# Altium integrated library Capacitor - Aluminium TH.IntLib: 4591 symbols (part 22 of 68)
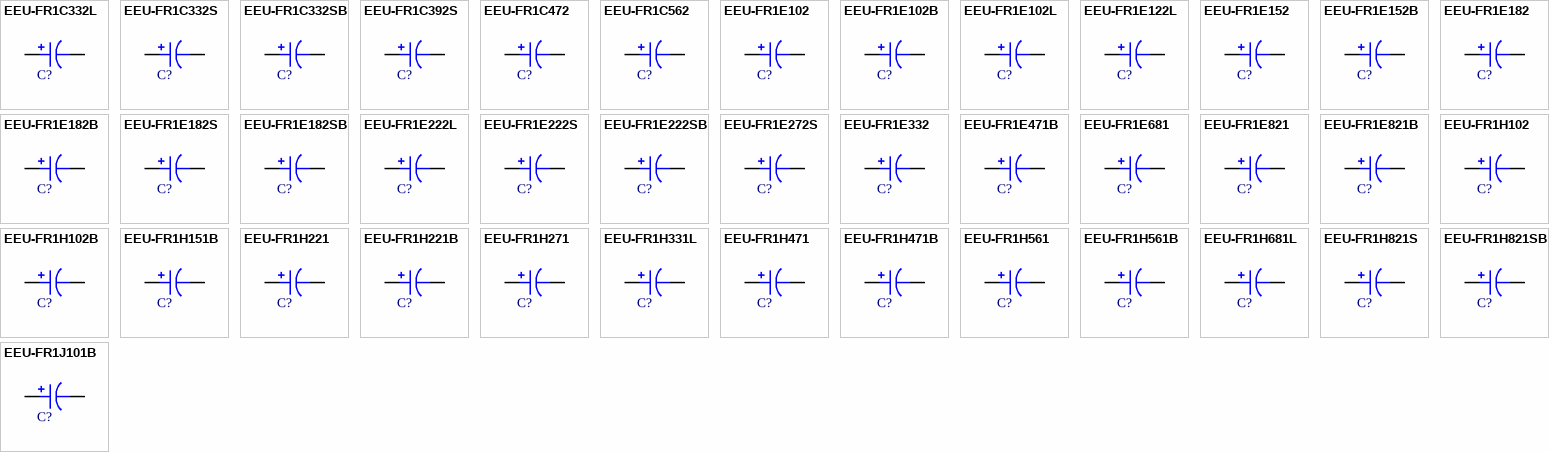
[diagram p135: symbols EEU-FR1C332L to EEU-FR1J101B]

## EEU-FR1H561B
designator C?, comment 560uF  (value not drawn)
CAP ALUM 560UF 20% 50V RADIAL; Part Number: EEU-FR1H561B; Manufacturer: Panasonic Electronic Components; TemperatureRange: -40C ~ 105C; Type: Polar; Ripple Current: 1.995A @ 120Hz; Impedance: 18 mOhm; Value: 560uF; PartId: 24080; Supplier 1: Digi-Key; Supplier Part Number 1: P15380CT-ND; ComponentLink1Description: Datasheet; ComponentLink1URL: http://industrial.panasonic.com/cdbs/www-data/pdf/RDF0000/ABA0000C836.pdf; ComponentLink2Description: Digi-Key Listing; ComponentLink2URL: https://www.digikey.com/product-detail/en/panasonic-electronic-components/EEU-FR1H561B/P15380CT-ND/3072260; Tolerance: 20%; Voltage: 50V; Price: 1.21; Device Package: Radial, Can, 12.5mm
footprint CAP AL TH D12.5 L5 H27
pins: 1, 2

## EEU-FR1H681L
designator C?, comment 680uF  (value not drawn)
CAP ALUM 680UF 20% 50V RADIAL; Part Number: EEU-FR1H681L; Manufacturer: Panasonic Electronic Components; TemperatureRange: -40C ~ 105C; Type: Polar; Ripple Current: 2.37A @ 120Hz; Impedance: 16 mOhm; Value: 680uF; PartId: 24336; Supplier 1: Digi-Key; Supplier Part Number 1: P14463-ND; ComponentLink1Description: Datasheet; ComponentLink1URL: http://industrial.panasonic.com/cdbs/www-data/pdf/RDF0000/ABA0000C836.pdf; ComponentLink2Description: Digi-Key Listing; ComponentLink2URL: https://www.digikey.com/product-detail/en/panasonic-electronic-components/EEU-FR1H681L/P14463-ND/2433597; Tolerance: 20%; Voltage: 50V; Price: 1.31; Device Package: Radial, Can, 12.5mm
footprint CAP AL TH D12.5 L5 H35.5
pins: 1, 2

## EEU-FR1H821S
designator C?, comment 820uF  (value not drawn)
CAP ALUM 820UF 20% 50V RADIAL; Part Number: EEU-FR1H821S; Manufacturer: Panasonic Electronic Components; TemperatureRange: -40C ~ 105C; Type: Polar; Ripple Current: 2.1525A @ 120Hz; Impedance: 19 mOhm; Value: 820uF; PartId: 26469; Supplier 1: Digi-Key; Supplier Part Number 1: P14464-ND; ComponentLink1Description: Datasheet; ComponentLink1URL: http://industrial.panasonic.com/cdbs/www-data/pdf/RDF0000/ABA0000C836.pdf; ComponentLink2Description: Digi-Key Listing; ComponentLink2URL: https://www.digikey.com/product-detail/en/panasonic-electronic-components/EEU-FR1H821S/P14464-ND/2433598; Tolerance: 20%; Voltage: 50V; Price: 1.6; Device Package: Radial, Can, 16mm
footprint CAP AL TH D16 L7.5 H22
pins: 1, 2

## EEU-FR1H821SB
designator C?, comment 820uF  (value not drawn)
CAP ALUM 820UF 20% 50V RADIAL; Part Number: EEU-FR1H821SB; Manufacturer: Panasonic Electronic Components; TemperatureRange: -40C ~ 105C; Type: Polar; Ripple Current: 2.1525A @ 120Hz; Impedance: 19 mOhm; Value: 820uF; PartId: 26392; Supplier 1: Digi-Key; Supplier Part Number 1: P15381TB-ND; ComponentLink1Description: Datasheet; ComponentLink1URL: http://industrial.panasonic.com/cdbs/www-data/pdf/RDF0000/ABA0000C836.pdf; ComponentLink2Description: Digi-Key Listing; ComponentLink2URL: https://www.digikey.com/product-detail/en/panasonic-electronic-components/EEU-FR1H821SB/P15381TB-ND/2504150; Tolerance: 20%; Voltage: 50V; Price: 0.841; Device Package: Radial, Can, 16mm
footprint CAP AL TH D16 L7.5 H22
pins: 1, 2

## EEU-FR1J101B
designator C?, comment 100uF  (value not drawn)
CAP ALUM 100UF 20% 63V RADIAL; Part Number: EEU-FR1J101B; Manufacturer: Panasonic Electronic Components; TemperatureRange: -40C ~ 105C; Type: Polar; Ripple Current: 532.7mA @ 120Hz; Impedance: 63 mOhm; Value: 100uF; PartId: 24651; Supplier 1: Digi-Key; Supplier Part Number 1: P15287TB-ND; ComponentLink1Description: Datasheet; ComponentLink1URL: http://industrial.panasonic.com/cdbs/www-data/pdf/RDF0000/ABA0000C836.pdf; ComponentLink2Description: Digi-Key Listing; ComponentLink2URL: https://www.digikey.com/product-detail/en/panasonic-electronic-components/EEU-FR1J101B/P15287TB-ND/3072304; Tolerance: 20%; Voltage: 63V; Price: 0.2544; Device Package: Radial, Can, 10mm
footprint CAP AL TH D10 L5 H14.5
pins: 1, 2

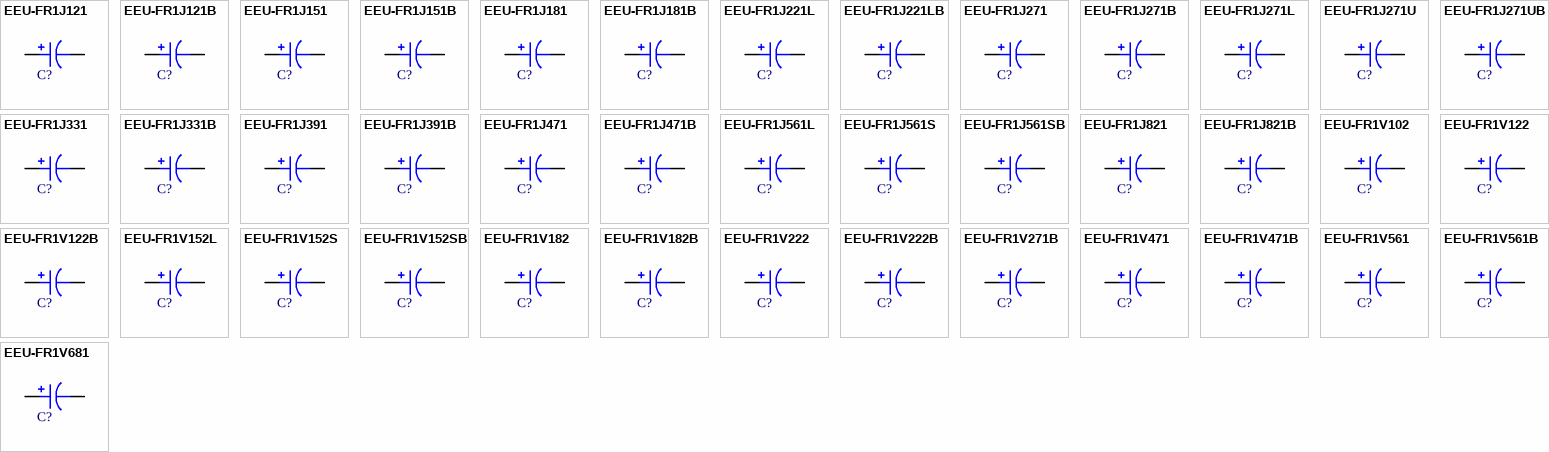
[diagram p35: symbols EEU-FR1J121 to EEU-FR1V681]

## EEU-FR1J121
designator C?, comment 120uF  (value not drawn)
CAP ALUM 120UF 20% 63V RADIAL; Part Number: EEU-FR1J121; Manufacturer: Panasonic Electronic Components; TemperatureRange: -40C ~ 105C; Type: Polar; Ripple Current: 751.1mA @ 120Hz; Impedance: 45 mOhm; Value: 120uF; PartId: 25334; Supplier 1: Digi-Key; Supplier Part Number 1: P15404-ND; ComponentLink1Description: Datasheet; ComponentLink1URL: http://industrial.panasonic.com/cdbs/www-data/pdf/RDF0000/ABA0000C836.pdf; ComponentLink2Description: Digi-Key Listing; ComponentLink2URL: https://www.digikey.com/product-detail/en/panasonic-electronic-components/EEU-FR1J121/P15404-ND/3072284; Tolerance: 20%; Voltage: 63V; Price: 0.67; Device Package: Radial, Can, 10mm
footprint CAP AL TH D10 L5 H17.5
pins: 1, 2

## EEU-FR1J121B
designator C?, comment 120uF  (value not drawn)
CAP ALUM 120UF 20% 63V RADIAL; Part Number: EEU-FR1J121B; Manufacturer: Panasonic Electronic Components; TemperatureRange: -40C ~ 105C; Type: Polar; Ripple Current: 751.1mA @ 120Hz; Impedance: 45 mOhm; Value: 120uF; PartId: 25094; Supplier 1: Digi-Key; Supplier Part Number 1: P15289TB-ND; ComponentLink1Description: Datasheet; ComponentLink1URL: http://industrial.panasonic.com/cdbs/www-data/pdf/RDF0000/ABA0000C836.pdf; ComponentLink2Description: Digi-Key Listing; ComponentLink2URL: https://www.digikey.com/product-detail/en/panasonic-electronic-components/EEU-FR1J121B/P15289TB-ND/3072306; Tolerance: 20%; Voltage: 63V; Price: 0.2675; Device Package: Radial, Can, 10mm
footprint CAP AL TH D10 L5 H17.5
pins: 1, 2

## EEU-FR1J151
designator C?, comment 150uF  (value not drawn)
CAP ALUM 150UF 20% 63V RADIAL; Part Number: EEU-FR1J151; Manufacturer: Panasonic Electronic Components; TemperatureRange: -40C ~ 105C; Type: Polar; Ripple Current: 751.1mA @ 120Hz; Impedance: 45 mOhm; Value: 150uF; PartId: 25330; Supplier 1: Digi-Key; Supplier Part Number 1: P15406-ND; ComponentLink1Description: Datasheet; ComponentLink1URL: http://industrial.panasonic.com/cdbs/www-data/pdf/RDF0000/ABA0000C836.pdf; ComponentLink2Description: Digi-Key Listing; ComponentLink2URL: https://www.digikey.com/product-detail/en/panasonic-electronic-components/EEU-FR1J151/P15406-ND/3072286; Tolerance: 20%; Voltage: 63V; Price: 0.67; Device Package: Radial, Can, 10mm
footprint CAP AL TH D10 L5 H17.5
pins: 1, 2

## EEU-FR1J151B
designator C?, comment 150uF  (value not drawn)
CAP ALUM 150UF 20% 63V RADIAL; Part Number: EEU-FR1J151B; Manufacturer: Panasonic Electronic Components; TemperatureRange: -40C ~ 105C; Type: Polar; Ripple Current: 751.1mA @ 120Hz; Impedance: 45 mOhm; Value: 150uF; PartId: 25093; Supplier 1: Digi-Key; Supplier Part Number 1: P15291TB-ND; ComponentLink1Description: Datasheet; ComponentLink1URL: http://industrial.panasonic.com/cdbs/www-data/pdf/RDF0000/ABA0000C836.pdf; ComponentLink2Description: Digi-Key Listing; ComponentLink2URL: https://www.digikey.com/product-detail/en/panasonic-electronic-components/EEU-FR1J151B/P15291TB-ND/3072308; Tolerance: 20%; Voltage: 63V; Price: 0.2675; Device Package: Radial, Can, 10mm
footprint CAP AL TH D10 L5 H17.5
pins: 1, 2

## EEU-FR1J181
designator C?, comment 180uF  (value not drawn)
CAP ALUM 180UF 20% 63V RADIAL; Part Number: EEU-FR1J181; Manufacturer: Panasonic Electronic Components; TemperatureRange: -40C ~ 105C; Type: Polar; Ripple Current: 860.3mA @ 120Hz; Impedance: 35 mOhm; Value: 180uF; PartId: 25972; Supplier 1: Digi-Key; Supplier Part Number 1: P15408-ND; ComponentLink1Description: Datasheet; ComponentLink1URL: http://industrial.panasonic.com/cdbs/www-data/pdf/RDF0000/ABA0000C836.pdf; ComponentLink2Description: Digi-Key Listing; ComponentLink2URL: https://www.digikey.com/product-detail/en/panasonic-electronic-components/EEU-FR1J181/P15408-ND/3072288; Tolerance: 20%; Voltage: 63V; Price: 0.87; Device Package: Radial, Can, 10mm
footprint CAP AL TH D10 L5 H22
pins: 1, 2

## EEU-FR1J181B
designator C?, comment 180uF  (value not drawn)
CAP ALUM 180UF 20% 63V RADIAL; Part Number: EEU-FR1J181B; Manufacturer: Panasonic Electronic Components; TemperatureRange: -40C ~ 105C; Type: Polar; Ripple Current: 860.3mA @ 120Hz; Impedance: 35 mOhm; Value: 180uF; PartId: 25832; Supplier 1: Digi-Key; Supplier Part Number 1: P15293TB-ND; ComponentLink1Description: Datasheet; ComponentLink1URL: http://industrial.panasonic.com/cdbs/www-data/pdf/RDF0000/ABA0000C836.pdf; ComponentLink2Description: Digi-Key Listing; ComponentLink2URL: https://www.digikey.com/product-detail/en/panasonic-electronic-components/EEU-FR1J181B/P15293TB-ND/3072310; Tolerance: 20%; Voltage: 63V; Price: 0.3654; Device Package: Radial, Can, 10mm
footprint CAP AL TH D10 L5 H22
pins: 1, 2

## EEU-FR1J221L
designator C?, comment 220uF  (value not drawn)
CAP ALUM 220UF 20% 63V RADIAL; Part Number: EEU-FR1J221L; Manufacturer: Panasonic Electronic Components; TemperatureRange: -40C ~ 105C; Type: Polar; Ripple Current: 1.05A @ 120Hz; Impedance: 33 mOhm; Value: 220uF; PartId: 26154; Supplier 1: Digi-Key; Supplier Part Number 1: P15409-ND; ComponentLink1Description: Datasheet; ComponentLink1URL: http://industrial.panasonic.com/cdbs/www-data/pdf/RDF0000/ABA0000C836.pdf; ComponentLink2Description: Digi-Key Listing; ComponentLink2URL: https://www.digikey.com/product-detail/en/panasonic-electronic-components/EEU-FR1J221L/P15409-ND/3072289; Tolerance: 20%; Voltage: 63V; Price: 0.86; Device Package: Radial, Can, 10mm
footprint CAP AL TH D10 L5 H30
pins: 1, 2

## EEU-FR1J221LB
designator C?, comment 220uF  (value not drawn)
CAP ALUM 220UF 20% 63V RADIAL; Part Number: EEU-FR1J221LB; Manufacturer: Panasonic Electronic Components; TemperatureRange: -40C ~ 105C; Type: Polar; Ripple Current: 1.05A @ 120Hz; Impedance: 33 mOhm; Value: 220uF; PartId: 26018; Supplier 1: Digi-Key; Supplier Part Number 1: P15294TB-ND; ComponentLink1Description: Datasheet; ComponentLink1URL: http://industrial.panasonic.com/cdbs/www-data/pdf/RDF0000/ABA0000C836.pdf; ComponentLink2Description: Digi-Key Listing; ComponentLink2URL: https://www.digikey.com/product-detail/en/panasonic-electronic-components/EEU-FR1J221LB/P15294TB-ND/3072311; Tolerance: 20%; Voltage: 63V; Price: 0.3618; Device Package: Radial, Can, 10mm
footprint CAP AL TH D10 L5 H30
pins: 1, 2

## EEU-FR1J271
designator C?, comment 270uF  (value not drawn)
CAP ALUM 270UF 20% 63V RADIAL; Part Number: EEU-FR1J271; Manufacturer: Panasonic Electronic Components; TemperatureRange: -40C ~ 105C; Type: Polar; Ripple Current: 1.1074A @ 120Hz; Impedance: 33 mOhm; Value: 270uF; PartId: 23398; Supplier 1: Digi-Key; Supplier Part Number 1: P15412-ND; ComponentLink1Description: Datasheet; ComponentLink1URL: http://industrial.panasonic.com/cdbs/www-data/pdf/RDF0000/ABA0000C836.pdf; ComponentLink2Description: Digi-Key Listing; ComponentLink2URL: https://www.digikey.com/product-detail/en/panasonic-electronic-components/EEU-FR1J271/P15412-ND/3072292; Tolerance: 20%; Voltage: 63V; Price: 0.97; Device Package: Radial, Can, 12.5mm
footprint CAP AL TH D12.5 L5 H22
pins: 1, 2

## EEU-FR1J271B
designator C?, comment 270uF  (value not drawn)
CAP ALUM 270UF 20% 63V RADIAL; Part Number: EEU-FR1J271B; Manufacturer: Panasonic Electronic Components; TemperatureRange: -40C ~ 105C; Type: Polar; Ripple Current: 1.1074A @ 120Hz; Impedance: 33 mOhm; Value: 270uF; PartId: 23186; Supplier 1: Digi-Key; Supplier Part Number 1: P15297TB-ND; ComponentLink1Description: Datasheet; ComponentLink1URL: http://industrial.panasonic.com/cdbs/www-data/pdf/RDF0000/ABA0000C836.pdf; ComponentLink2Description: Digi-Key Listing; ComponentLink2URL: https://www.digikey.com/product-detail/en/panasonic-electronic-components/EEU-FR1J271B/P15297TB-ND/3072314; Tolerance: 20%; Voltage: 63V; Price: 0.4326; Device Package: Radial, Can, 12.5mm
footprint CAP AL TH D12.5 L5 H22
pins: 1, 2

## EEU-FR1J271L
designator C?, comment 270uF  (value not drawn)
CAP ALUM 270UF 20% 63V RADIAL; Part Number: EEU-FR1J271L; Manufacturer: Panasonic Electronic Components; TemperatureRange: -40C ~ 105C; Type: Polar; Ripple Current: 1.05A @ 120Hz; Impedance: 33 mOhm; Value: 270uF; PartId: 26170; Supplier 1: Digi-Key; Supplier Part Number 1: P15411-ND; ComponentLink1Description: Datasheet; ComponentLink1URL: http://industrial.panasonic.com/cdbs/www-data/pdf/RDF0000/ABA0000C836.pdf; ComponentLink2Description: Digi-Key Listing; ComponentLink2URL: https://www.digikey.com/product-detail/en/panasonic-electronic-components/EEU-FR1J271L/P15411-ND/3072291; Tolerance: 20%; Voltage: 63V; Price: 0.94; Device Package: Radial, Can, 10mm
footprint CAP AL TH D10 L5 H30
pins: 1, 2

## EEU-FR1J271U
designator C?, comment 270uF  (value not drawn)
CAP ALUM 270UF 20% 63V RADIAL; Part Number: EEU-FR1J271U; Manufacturer: Panasonic Electronic Components; TemperatureRange: -40C ~ 105C; Type: Polar; Ripple Current: 860.3mA @ 120Hz; Impedance: 35 mOhm; Value: 270uF; PartId: 25973; Supplier 1: Digi-Key; Supplier Part Number 1: P15410-ND; ComponentLink1Description: Datasheet; ComponentLink1URL: http://industrial.panasonic.com/cdbs/www-data/pdf/RDF0000/ABA0000C836.pdf; ComponentLink2Description: Digi-Key Listing; ComponentLink2URL: https://www.digikey.com/product-detail/en/panasonic-electronic-components/EEU-FR1J271U/P15410-ND/3072290; Tolerance: 20%; Voltage: 63V; Price: 0.87; Device Package: Radial, Can, 10mm
footprint CAP AL TH D10 L5 H22
pins: 1, 2

## EEU-FR1J271UB
designator C?, comment 270uF  (value not drawn)
CAP ALUM 270UF 20% 63V RADIAL; Part Number: EEU-FR1J271UB; Manufacturer: Panasonic Electronic Components; TemperatureRange: -40C ~ 105C; Type: Polar; Ripple Current: 860.3mA @ 120Hz; Impedance: 35 mOhm; Value: 270uF; PartId: 25831; Supplier 1: Digi-Key; Supplier Part Number 1: P15295TB-ND; ComponentLink1Description: Datasheet; ComponentLink1URL: http://industrial.panasonic.com/cdbs/www-data/pdf/RDF0000/ABA0000C836.pdf; ComponentLink2Description: Digi-Key Listing; ComponentLink2URL: https://www.digikey.com/product-detail/en/panasonic-electronic-components/EEU-FR1J271UB/P15295TB-ND/3072312; Tolerance: 20%; Voltage: 63V; Price: 0.3654; Device Package: Radial, Can, 10mm
footprint CAP AL TH D10 L5 H22
pins: 1, 2

## EEU-FR1J331
designator C?, comment 330uF  (value not drawn)
CAP ALUM 330UF 20% 63V RADIAL; Part Number: EEU-FR1J331; Manufacturer: Panasonic Electronic Components; TemperatureRange: -40C ~ 105C; Type: Polar; Ripple Current: 1.1074A @ 120Hz; Impedance: 33 mOhm; Value: 330uF; PartId: 23397; Supplier 1: Digi-Key; Supplier Part Number 1: P15413-ND; ComponentLink1Description: Datasheet; ComponentLink1URL: http://industrial.panasonic.com/cdbs/www-data/pdf/RDF0000/ABA0000C836.pdf; ComponentLink2Description: Digi-Key Listing; ComponentLink2URL: https://www.digikey.com/product-detail/en/panasonic-electronic-components/EEU-FR1J331/P15413-ND/3072293; Tolerance: 20%; Voltage: 63V; Price: 0.97; Device Package: Radial, Can, 12.5mm
footprint CAP AL TH D12.5 L5 H22
pins: 1, 2

## EEU-FR1J331B
designator C?, comment 330uF  (value not drawn)
CAP ALUM 330UF 20% 63V RADIAL; Part Number: EEU-FR1J331B; Manufacturer: Panasonic Electronic Components; TemperatureRange: -40C ~ 105C; Type: Polar; Ripple Current: 1.1074A @ 120Hz; Impedance: 33 mOhm; Value: 330uF; PartId: 23185; Supplier 1: Digi-Key; Supplier Part Number 1: P15298TB-ND; ComponentLink1Description: Datasheet; ComponentLink1URL: http://industrial.panasonic.com/cdbs/www-data/pdf/RDF0000/ABA0000C836.pdf; ComponentLink2Description: Digi-Key Listing; ComponentLink2URL: https://www.digikey.com/product-detail/en/panasonic-electronic-components/EEU-FR1J331B/P15298TB-ND/3072315; Tolerance: 20%; Voltage: 63V; Price: 0.4326; Device Package: Radial, Can, 12.5mm
footprint CAP AL TH D12.5 L5 H22
pins: 1, 2

## EEU-FR1J391
designator C?, comment 390uF  (value not drawn)
CAP ALUM 390UF 20% 63V RADIAL; Part Number: EEU-FR1J391; Manufacturer: Panasonic Electronic Components; TemperatureRange: -40C ~ 105C; Type: Polar; Ripple Current: 1.496A @ 120Hz; Impedance: 27 mOhm; Value: 390uF; PartId: 24043; Supplier 1: Digi-Key; Supplier Part Number 1: P15414-ND; ComponentLink1Description: Datasheet; ComponentLink1URL: http://industrial.panasonic.com/cdbs/www-data/pdf/RDF0000/ABA0000C836.pdf; ComponentLink2Description: Digi-Key Listing; ComponentLink2URL: https://www.digikey.com/product-detail/en/panasonic-electronic-components/EEU-FR1J391/P15414-ND/3072294; Tolerance: 20%; Voltage: 63V; Price: 1.13; Device Package: Radial, Can, 12.5mm
footprint CAP AL TH D12.5 L5 H27
pins: 1, 2

## EEU-FR1J391B
designator C?, comment 390uF  (value not drawn)
CAP ALUM 390UF 20% 63V RADIAL; Part Number: EEU-FR1J391B; Manufacturer: Panasonic Electronic Components; TemperatureRange: -40C ~ 105C; Type: Polar; Ripple Current: 1.496A @ 120Hz; Impedance: 27 mOhm; Value: 390uF; PartId: 24092; Supplier 1: Digi-Key; Supplier Part Number 1: P15299CT-ND; ComponentLink1Description: Datasheet; ComponentLink1URL: http://industrial.panasonic.com/cdbs/www-data/pdf/RDF0000/ABA0000C836.pdf; ComponentLink2Description: Digi-Key Listing; ComponentLink2URL: https://www.digikey.com/product-detail/en/panasonic-electronic-components/EEU-FR1J391B/P15299CT-ND/3072179; Tolerance: 20%; Voltage: 63V; Price: 1.26; Device Package: Radial, Can, 12.5mm
footprint CAP AL TH D12.5 L5 H27
pins: 1, 2

## EEU-FR1J471
designator C?, comment 470uF  (value not drawn)
CAP ALUM 470UF 20% 63V RADIAL; Part Number: EEU-FR1J471; Manufacturer: Panasonic Electronic Components; TemperatureRange: -40C ~ 105C; Type: Polar; Ripple Current: 1.496A @ 120Hz; Impedance: 27 mOhm; Value: 470uF; PartId: 24042; Supplier 1: Digi-Key; Supplier Part Number 1: P15415-ND; ComponentLink1Description: Datasheet; ComponentLink1URL: http://industrial.panasonic.com/cdbs/www-data/pdf/RDF0000/ABA0000C836.pdf; ComponentLink2Description: Digi-Key Listing; ComponentLink2URL: https://www.digikey.com/product-detail/en/panasonic-electronic-components/EEU-FR1J471/P15415-ND/3072295; Tolerance: 20%; Voltage: 63V; Price: 1.13; Device Package: Radial, Can, 12.5mm
footprint CAP AL TH D12.5 L5 H27
pins: 1, 2

## EEU-FR1J471B
designator C?, comment 470uF  (value not drawn)
CAP ALUM 470UF 20% 63V RADIAL; Part Number: EEU-FR1J471B; Manufacturer: Panasonic Electronic Components; TemperatureRange: -40C ~ 105C; Type: Polar; Ripple Current: 1.496A @ 120Hz; Impedance: 27 mOhm; Value: 470uF; PartId: 23841; Supplier 1: Digi-Key; Supplier Part Number 1: P15300TB-ND; ComponentLink1Description: Datasheet; ComponentLink1URL: http://industrial.panasonic.com/cdbs/www-data/pdf/RDF0000/ABA0000C836.pdf; ComponentLink2Description: Digi-Key Listing; ComponentLink2URL: https://www.digikey.com/product-detail/en/panasonic-electronic-components/EEU-FR1J471B/P15300TB-ND/3072317; Tolerance: 20%; Voltage: 63V; Price: 0.5038; Device Package: Radial, Can, 12.5mm
footprint CAP AL TH D12.5 L5 H27
pins: 1, 2

## EEU-FR1J561L
designator C?, comment 560uF  (value not drawn)
CAP ALUM 560UF 20% 63V RADIAL; Part Number: EEU-FR1J561L; Manufacturer: Panasonic Electronic Components; TemperatureRange: -40C ~ 105C; Type: Polar; Ripple Current: 1.896A @ 120Hz; Impedance: 24 mOhm; Value: 560uF; PartId: 24344; Supplier 1: Digi-Key; Supplier Part Number 1: P15416-ND; ComponentLink1Description: Datasheet; ComponentLink1URL: http://industrial.panasonic.com/cdbs/www-data/pdf/RDF0000/ABA0000C836.pdf; ComponentLink2Description: Digi-Key Listing; ComponentLink2URL: https://www.digikey.com/product-detail/en/panasonic-electronic-components/EEU-FR1J561L/P15416-ND/3072296; Tolerance: 20%; Voltage: 63V; Price: 1.38; Device Package: Radial, Can, 12.5mm
footprint CAP AL TH D12.5 L5 H35.5
pins: 1, 2

## EEU-FR1J561S
designator C?, comment 560uF  (value not drawn)
CAP ALUM 560UF 20% 63V RADIAL; Part Number: EEU-FR1J561S; Manufacturer: Panasonic Electronic Components; TemperatureRange: -40C ~ 105C; Type: Polar; Ripple Current: 1.615A @ 120Hz; Impedance: 29 mOhm; Value: 560uF; PartId: 26470; Supplier 1: Digi-Key; Supplier Part Number 1: P15417-ND; ComponentLink1Description: Datasheet; ComponentLink1URL: http://industrial.panasonic.com/cdbs/www-data/pdf/RDF0000/ABA0000C836.pdf; ComponentLink2Description: Digi-Key Listing; ComponentLink2URL: https://www.digikey.com/product-detail/en/panasonic-electronic-components/EEU-FR1J561S/P15417-ND/3072297; Tolerance: 20%; Voltage: 63V; Price: 1.6; Device Package: Radial, Can, 16mm
footprint CAP AL TH D16 L7.5 H22
pins: 1, 2

## EEU-FR1J561SB
designator C?, comment 560uF  (value not drawn)
CAP ALUM 560UF 20% 63V RADIAL; Part Number: EEU-FR1J561SB; Manufacturer: Panasonic Electronic Components; TemperatureRange: -40C ~ 105C; Type: Polar; Ripple Current: 1.615A @ 120Hz; Impedance: 29 mOhm; Value: 560uF; PartId: 26394; Supplier 1: Digi-Key; Supplier Part Number 1: P15301TB-ND; ComponentLink1Description: Datasheet; ComponentLink1URL: http://industrial.panasonic.com/cdbs/www-data/pdf/RDF0000/ABA0000C836.pdf; ComponentLink2Description: Digi-Key Listing; ComponentLink2URL: https://www.digikey.com/product-detail/en/panasonic-electronic-components/EEU-FR1J561SB/P15301TB-ND/3072318; Tolerance: 20%; Voltage: 63V; Price: 0.842; Device Package: Radial, Can, 16mm
footprint CAP AL TH D16 L7.5 H22
pins: 1, 2

## EEU-FR1J821
designator C?, comment 820uF  (value not drawn)
CAP ALUM 820UF 20% 63V RADIAL; Part Number: EEU-FR1J821; Manufacturer: Panasonic Electronic Components; TemperatureRange: -40C ~ 105C; Type: Polar; Ripple Current: 2.241A @ 120Hz; Impedance: 24 mOhm; Value: 820uF; PartId: 26939; Supplier 1: Digi-Key; Supplier Part Number 1: P15419-ND; ComponentLink1Description: Datasheet; ComponentLink1URL: http://industrial.panasonic.com/cdbs/www-data/pdf/RDF0000/ABA0000C836.pdf; ComponentLink2Description: Digi-Key Listing; ComponentLink2URL: https://www.digikey.com/product-detail/en/panasonic-electronic-components/EEU-FR1J821/P15419-ND/3072299; Tolerance: 20%; Voltage: 63V; Price: 1.85; Device Package: Radial, Can, 16mm
footprint CAP AL TH D16 L7.5 H27
pins: 1, 2

## EEU-FR1J821B
designator C?, comment 820uF  (value not drawn)
CAP ALUM 820UF 20% 63V RADIAL; Part Number: EEU-FR1J821B; Manufacturer: Panasonic Electronic Components; TemperatureRange: -40C ~ 105C; Type: Polar; Ripple Current: 2.241A @ 120Hz; Impedance: 24 mOhm; Value: 820uF; PartId: 26821; Supplier 1: Digi-Key; Supplier Part Number 1: P15302TB-ND; ComponentLink1Description: Datasheet; ComponentLink1URL: http://industrial.panasonic.com/cdbs/www-data/pdf/RDF0000/ABA0000C836.pdf; ComponentLink2Description: Digi-Key Listing; ComponentLink2URL: https://www.digikey.com/product-detail/en/panasonic-electronic-components/EEU-FR1J821B/P15302TB-ND/3072319; Tolerance: 20%; Voltage: 63V; Price: 0.9746; Device Package: Radial, Can, 16mm
footprint CAP AL TH D16 L7.5 H27
pins: 1, 2

## EEU-FR1V102
designator C?, comment 1000uF  (value not drawn)
CAP ALUM 1000UF 20% 35V RADIAL; Part Number: EEU-FR1V102; Manufacturer: Panasonic Electronic Components; TemperatureRange: -40C ~ 105C; Type: Polar; Ripple Current: 1.95A @ 120Hz; Impedance: 18 mOhm; Value: 1000uF; PartId: 23414; Supplier 1: Digi-Key; Supplier Part Number 1: P14445-ND; ComponentLink1Description: Datasheet; ComponentLink1URL: http://industrial.panasonic.com/cdbs/www-data/pdf/RDF0000/ABA0000C836.pdf; ComponentLink2Description: Digi-Key Listing; ComponentLink2URL: https://www.digikey.com/product-detail/en/panasonic-electronic-components/EEU-FR1V102/P14445-ND/2433579; Tolerance: 20%; Voltage: 35V; Price: 1; Device Package: Radial, Can, 12.5mm
footprint CAP AL TH D12.5 L5 H22
pins: 1, 2

## EEU-FR1V122
designator C?, comment 1200uF  (value not drawn)
CAP ALUM 1200UF 20% 35V RADIAL; Part Number: EEU-FR1V122; Manufacturer: Panasonic Electronic Components; TemperatureRange: -40C ~ 105C; Type: Polar; Ripple Current: 2.552A @ 120Hz; Impedance: 15 mOhm; Value: 1200uF; PartId: 24021; Supplier 1: Digi-Key; Supplier Part Number 1: P14446-ND; ComponentLink1Description: Datasheet; ComponentLink1URL: http://industrial.panasonic.com/cdbs/www-data/pdf/RDF0000/ABA0000C836.pdf; ComponentLink2Description: Digi-Key Listing; ComponentLink2URL: https://www.digikey.com/product-detail/en/panasonic-electronic-components/EEU-FR1V122/P14446-ND/2433580; Tolerance: 20%; Voltage: 35V; Price: 1.08; Device Package: Radial, Can, 12.5mm
footprint CAP AL TH D12.5 L5 H27
pins: 1, 2

## EEU-FR1V122B
designator C?, comment 1200uF  (value not drawn)
CAP ALUM 1200UF 20% 35V RADIAL; Part Number: EEU-FR1V122B; Manufacturer: Panasonic Electronic Components; TemperatureRange: -40C ~ 105C; Type: Polar; Ripple Current: 2.552A @ 120Hz; Impedance: 15 mOhm; Value: 1200uF; PartId: 23836; Supplier 1: Digi-Key; Supplier Part Number 1: P15383TB-ND; ComponentLink1Description: Datasheet; ComponentLink1URL: http://industrial.panasonic.com/cdbs/www-data/pdf/RDF0000/ABA0000C836.pdf; ComponentLink2Description: Digi-Key Listing; ComponentLink2URL: https://www.digikey.com/product-detail/en/panasonic-electronic-components/EEU-FR1V122B/P15383TB-ND/2504174; Tolerance: 20%; Voltage: 35V; Price: 0.4851; Device Package: Radial, Can, 12.5mm
footprint CAP AL TH D12.5 L5 H27
pins: 1, 2

## EEU-FR1V152L
designator C?, comment 1500uF  (value not drawn)
CAP ALUM 1500UF 20% 35V RADIAL; Part Number: EEU-FR1V152L; Manufacturer: Panasonic Electronic Components; TemperatureRange: -40C ~ 105C; Type: Polar; Ripple Current: 2.904A @ 120Hz; Impedance: 13 mOhm; Value: 1500uF; PartId: 24335; Supplier 1: Digi-Key; Supplier Part Number 1: P14447-ND; ComponentLink1Description: Datasheet; ComponentLink1URL: http://industrial.panasonic.com/cdbs/www-data/pdf/RDF0000/ABA0000C836.pdf; ComponentLink2Description: Digi-Key Listing; ComponentLink2URL: https://www.digikey.com/product-detail/en/panasonic-electronic-components/EEU-FR1V152L/P14447-ND/2433581; Tolerance: 20%; Voltage: 35V; Price: 1.31; Device Package: Radial, Can, 12.5mm
footprint CAP AL TH D12.5 L5 H35.5
pins: 1, 2

## EEU-FR1V152S
designator C?, comment 1500uF  (value not drawn)
CAP ALUM 1500UF 20% 35V RADIAL; Part Number: EEU-FR1V152S; Manufacturer: Panasonic Electronic Components; TemperatureRange: -40C ~ 105C; Type: Polar; Ripple Current: 2.64A @ 120Hz; Impedance: 17 mOhm; Value: 1500uF; PartId: 26468; Supplier 1: Digi-Key; Supplier Part Number 1: P14448-ND; ComponentLink1Description: Datasheet; ComponentLink1URL: http://industrial.panasonic.com/cdbs/www-data/pdf/RDF0000/ABA0000C836.pdf; ComponentLink2Description: Digi-Key Listing; ComponentLink2URL: https://www.digikey.com/product-detail/en/panasonic-electronic-components/EEU-FR1V152S/P14448-ND/2433582; Tolerance: 20%; Voltage: 35V; Price: 1.6; Device Package: Radial, Can, 16mm
footprint CAP AL TH D16 L7.5 H22
pins: 1, 2

## EEU-FR1V152SB
designator C?, comment 1500uF  (value not drawn)
CAP ALUM 1500UF 20% 35V RADIAL; Part Number: EEU-FR1V152SB; Manufacturer: Panasonic Electronic Components; TemperatureRange: -40C ~ 105C; Type: Polar; Ripple Current: 2.64A @ 120Hz; Impedance: 17 mOhm; Value: 1500uF; PartId: 26393; Supplier 1: Digi-Key; Supplier Part Number 1: P15384TB-ND; ComponentLink1Description: Datasheet; ComponentLink1URL: http://industrial.panasonic.com/cdbs/www-data/pdf/RDF0000/ABA0000C836.pdf; ComponentLink2Description: Digi-Key Listing; ComponentLink2URL: https://www.digikey.com/product-detail/en/panasonic-electronic-components/EEU-FR1V152SB/P15384TB-ND/2504151; Tolerance: 20%; Voltage: 35V; Price: 0.841; Device Package: Radial, Can, 16mm
footprint CAP AL TH D16 L7.5 H22
pins: 1, 2

## EEU-FR1V182
designator C?, comment 1800uF  (value not drawn)
CAP ALUM 1800UF 20% 35V RADIAL; Part Number: EEU-FR1V182; Manufacturer: Panasonic Electronic Components; TemperatureRange: -40C ~ 105C; Type: Polar; Ripple Current: 3.056A @ 120Hz; Impedance: 14 mOhm; Value: 1800uF; PartId: 26931; Supplier 1: Digi-Key; Supplier Part Number 1: P16746-ND; ComponentLink1Description: Datasheet; ComponentLink1URL: http://industrial.panasonic.com/cdbs/www-data/pdf/RDF0000/ABA0000C836.pdf; ComponentLink2Description: Digi-Key Listing; ComponentLink2URL: https://www.digikey.com/product-detail/en/panasonic-electronic-components/EEU-FR1V182/P16746-ND/4289599; Tolerance: 20%; Voltage: 35V; Price: 1.81; Device Package: Radial, Can, 16mm
footprint CAP AL TH D16 L7.5 H27
pins: 1, 2

## EEU-FR1V182B
designator C?, comment 1800uF  (value not drawn)
CAP ALUM 1800UF 20% 35V RADIAL; Part Number: EEU-FR1V182B; Manufacturer: Panasonic Electronic Components; TemperatureRange: -40C ~ 105C; Type: Polar; Ripple Current: 3.056A @ 120Hz; Impedance: 14 mOhm; Value: 1800uF; PartId: 26813; Supplier 1: Digi-Key; Supplier Part Number 1: P16749TB-ND; ComponentLink1Description: Datasheet; ComponentLink1URL: http://industrial.panasonic.com/cdbs/www-data/pdf/RDF0000/ABA0000C836.pdf; ComponentLink2Description: Digi-Key Listing; ComponentLink2URL: https://www.digikey.com/product-detail/en/panasonic-electronic-components/EEU-FR1V182B/P16749TB-ND/4289600; Tolerance: 20%; Voltage: 35V; Price: 0.953; Device Package: Radial, Can, 16mm
footprint CAP AL TH D16 L7.5 H27
pins: 1, 2

## EEU-FR1V222
designator C?, comment 2200uF  (value not drawn)
CAP ALUM 2200UF 20% 35V RADIAL; Part Number: EEU-FR1V222; Manufacturer: Panasonic Electronic Components; TemperatureRange: -40C ~ 105C; Type: Polar; Ripple Current: 3.056A @ 120Hz; Impedance: 14 mOhm; Value: 2200uF; PartId: 26934; Supplier 1: Digi-Key; Supplier Part Number 1: P14451-ND; ComponentLink1Description: Datasheet; ComponentLink1URL: http://industrial.panasonic.com/cdbs/www-data/pdf/RDF0000/ABA0000C836.pdf; ComponentLink2Description: Digi-Key Listing; ComponentLink2URL: https://www.digikey.com/product-detail/en/panasonic-electronic-components/EEU-FR1V222/P14451-ND/2433585; Tolerance: 20%; Voltage: 35V; Price: 1.83; Device Package: Radial, Can, 16mm
footprint CAP AL TH D16 L7.5 H27
pins: 1, 2

## EEU-FR1V222B
designator C?, comment 2200uF  (value not drawn)
CAP ALUM 2200UF 20% 35V RADIAL; Part Number: EEU-FR1V222B; Manufacturer: Panasonic Electronic Components; TemperatureRange: -40C ~ 105C; Type: Polar; Ripple Current: 3.056A @ 120Hz; Impedance: 14 mOhm; Value: 2200uF; PartId: 26818; Supplier 1: Digi-Key; Supplier Part Number 1: P15386TB-ND; ComponentLink1Description: Datasheet; ComponentLink1URL: http://industrial.panasonic.com/cdbs/www-data/pdf/RDF0000/ABA0000C836.pdf; ComponentLink2Description: Digi-Key Listing; ComponentLink2URL: https://www.digikey.com/product-detail/en/panasonic-electronic-components/EEU-FR1V222B/P15386TB-ND/2504161; Tolerance: 20%; Voltage: 35V; Price: 0.9612; Device Package: Radial, Can, 16mm
footprint CAP AL TH D16 L7.5 H27
pins: 1, 2

## EEU-FR1V271B
designator C?, comment 270uF  (value not drawn)
CAP ALUM 270UF 20% 35V RADIAL; Part Number: EEU-FR1V271B; Manufacturer: Panasonic Electronic Components; TemperatureRange: -40C ~ 105C; Type: Polar; Ripple Current: 903mA @ 120Hz; Impedance: 43 mOhm; Value: 270uF; PartId: 24641; Supplier 1: Digi-Key; Supplier Part Number 1: P15387TB-ND; ComponentLink1Description: Datasheet; ComponentLink1URL: http://industrial.panasonic.com/cdbs/www-data/pdf/RDF0000/ABA0000C836.pdf; ComponentLink2Description: Digi-Key Listing; ComponentLink2URL: https://www.digikey.com/product-detail/en/panasonic-electronic-components/EEU-FR1V271B/P15387TB-ND/2504087; Tolerance: 20%; Voltage: 35V; Price: 0.2464; Device Package: Radial, Can, 10mm
footprint CAP AL TH D10 L5 H14.5
pins: 1, 2

## EEU-FR1V471
designator C?, comment 470uF  (value not drawn)
CAP ALUM 470UF 20% 35V RADIAL; Part Number: EEU-FR1V471; Manufacturer: Panasonic Electronic Components; TemperatureRange: -40C ~ 105C; Type: Polar; Ripple Current: 1.3425A @ 120Hz; Impedance: 28 mOhm; Value: 470uF; PartId: 25287; Supplier 1: Digi-Key; Supplier Part Number 1: P14441-ND; ComponentLink1Description: Datasheet; ComponentLink1URL: http://industrial.panasonic.com/cdbs/www-data/pdf/RDF0000/ABA0000C836.pdf; ComponentLink2Description: Digi-Key Listing; ComponentLink2URL: https://www.digikey.com/product-detail/en/panasonic-electronic-components/EEU-FR1V471/P14441-ND/2433575; Tolerance: 20%; Voltage: 35V; Price: 0.63; Device Package: Radial, Can, 10mm
footprint CAP AL TH D10 L5 H17.5
pins: 1, 2

## EEU-FR1V471B
designator C?, comment 470uF  (value not drawn)
CAP ALUM 470UF 20% 35V RADIAL; Part Number: EEU-FR1V471B; Manufacturer: Panasonic Electronic Components; TemperatureRange: -40C ~ 105C; Type: Polar; Ripple Current: 1.3425A @ 120Hz; Impedance: 28 mOhm; Value: 470uF; PartId: 25087; Supplier 1: Digi-Key; Supplier Part Number 1: P15391TB-ND; ComponentLink1Description: Datasheet; ComponentLink1URL: http://industrial.panasonic.com/cdbs/www-data/pdf/RDF0000/ABA0000C836.pdf; ComponentLink2Description: Digi-Key Listing; ComponentLink2URL: https://www.digikey.com/product-detail/en/panasonic-electronic-components/EEU-FR1V471B/P15391TB-ND/2504091; Tolerance: 20%; Voltage: 35V; Price: 0.2506; Device Package: Radial, Can, 10mm
footprint CAP AL TH D10 L5 H17.5
pins: 1, 2

## EEU-FR1V561
designator C?, comment 560uF  (value not drawn)
CAP ALUM 560UF 20% 35V RADIAL; Part Number: EEU-FR1V561; Manufacturer: Panasonic Electronic Components; TemperatureRange: -40C ~ 105C; Type: Polar; Ripple Current: 1.635A @ 120Hz; Impedance: 20 mOhm; Value: 560uF; PartId: 25934; Supplier 1: Digi-Key; Supplier Part Number 1: P14442-ND; ComponentLink1Description: Datasheet; ComponentLink1URL: http://industrial.panasonic.com/cdbs/www-data/pdf/RDF0000/ABA0000C836.pdf; ComponentLink2Description: Digi-Key Listing; ComponentLink2URL: https://www.digikey.com/product-detail/en/panasonic-electronic-components/EEU-FR1V561/P14442-ND/2433576; Tolerance: 20%; Voltage: 35V; Price: 0.74; Device Package: Radial, Can, 10mm
footprint CAP AL TH D10 L5 H22
pins: 1, 2

## EEU-FR1V561B
designator C?, comment 560uF  (value not drawn)
CAP ALUM 560UF 20% 35V RADIAL; Part Number: EEU-FR1V561B; Manufacturer: Panasonic Electronic Components; TemperatureRange: -40C ~ 105C; Type: Polar; Ripple Current: 1.635A @ 120Hz; Impedance: 20 mOhm; Value: 560uF; PartId: 25804; Supplier 1: Digi-Key; Supplier Part Number 1: P15393TB-ND; ComponentLink1Description: Datasheet; ComponentLink1URL: http://industrial.panasonic.com/cdbs/www-data/pdf/RDF0000/ABA0000C836.pdf; ComponentLink2Description: Digi-Key Listing; ComponentLink2URL: https://www.digikey.com/product-detail/en/panasonic-electronic-components/EEU-FR1V561B/P15393TB-ND/2504114; Tolerance: 20%; Voltage: 35V; Price: 0.2967; Device Package: Radial, Can, 10mm
footprint CAP AL TH D10 L5 H22
pins: 1, 2

## EEU-FR1V681
designator C?, comment 680uF  (value not drawn)
CAP ALUM 680UF 20% 35V RADIAL; Part Number: EEU-FR1V681; Manufacturer: Panasonic Electronic Components; TemperatureRange: -40C ~ 105C; Type: Polar; Ripple Current: 1.635A @ 120Hz; Impedance: 20 mOhm; Value: 680uF; PartId: 25960; Supplier 1: Digi-Key; Supplier Part Number 1: P14514-ND; ComponentLink1Description: Datasheet; ComponentLink1URL: http://industrial.panasonic.com/cdbs/www-data/pdf/RDF0000/ABA0000C836.pdf; ComponentLink2Description: Digi-Key Listing; ComponentLink2URL: https://www.digikey.com/product-detail/en/panasonic-electronic-components/EEU-FR1V681/P14514-ND/2504783; Tolerance: 20%; Voltage: 35V; Price: 0.83; Device Package: Radial, Can, 10mm
footprint CAP AL TH D10 L5 H22
pins: 1, 2

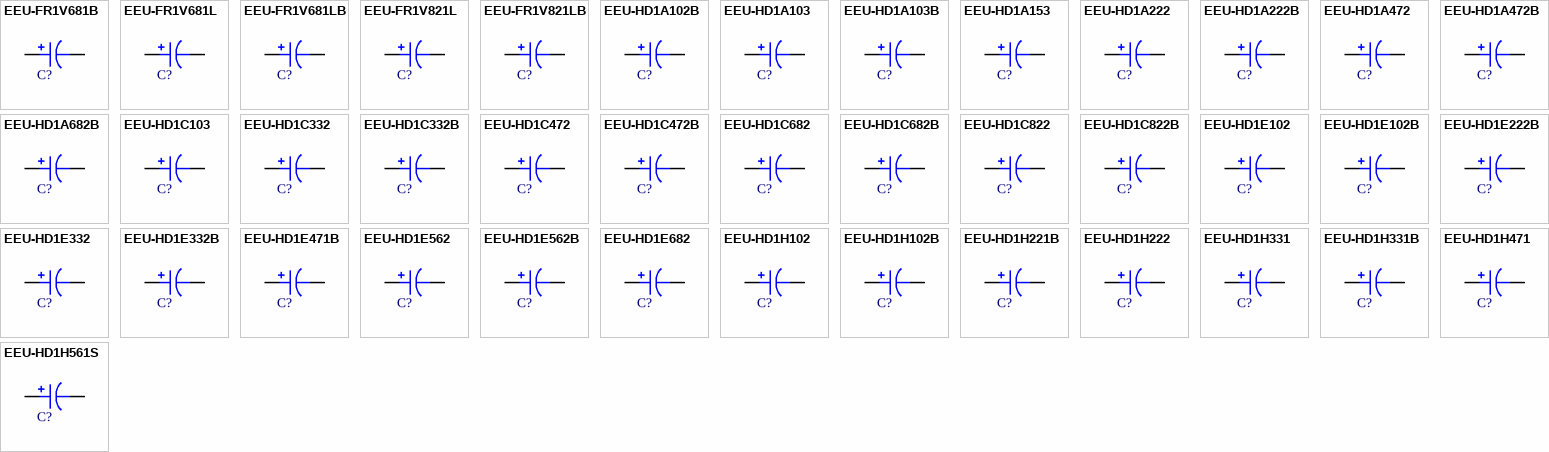
[diagram p36: symbols EEU-FR1V681B to EEU-HD1H561S]

## EEU-FR1V681B
designator C?, comment 680uF  (value not drawn)
CAP ALUM 680UF 20% 35V RADIAL; Part Number: EEU-FR1V681B; Manufacturer: Panasonic Electronic Components; TemperatureRange: -40C ~ 105C; Type: Polar; Ripple Current: 1.635A @ 120Hz; Impedance: 20 mOhm; Value: 680uF; PartId: 25829; Supplier 1: Digi-Key; Supplier Part Number 1: P15395TB-ND; ComponentLink1Description: Datasheet; ComponentLink1URL: http://industrial.panasonic.com/cdbs/www-data/pdf/RDF0000/ABA0000C836.pdf; ComponentLink2Description: Digi-Key Listing; ComponentLink2URL: https://www.digikey.com/product-detail/en/panasonic-electronic-components/EEU-FR1V681B/P15395TB-ND/2504132; Tolerance: 20%; Voltage: 35V; Price: 0.3513; Device Package: Radial, Can, 10mm
footprint CAP AL TH D10 L5 H22
pins: 1, 2

## EEU-FR1V681L
designator C?, comment 680uF  (value not drawn)
CAP ALUM 680UF 20% 35V RADIAL; Part Number: EEU-FR1V681L; Manufacturer: Panasonic Electronic Components; TemperatureRange: -40C ~ 105C; Type: Polar; Ripple Current: 1.8525A @ 120Hz; Impedance: 18 mOhm; Value: 680uF; PartId: 26147; Supplier 1: Digi-Key; Supplier Part Number 1: P14443-ND; ComponentLink1Description: Datasheet; ComponentLink1URL: http://industrial.panasonic.com/cdbs/www-data/pdf/RDF0000/ABA0000C836.pdf; ComponentLink2Description: Digi-Key Listing; ComponentLink2URL: https://www.digikey.com/product-detail/en/panasonic-electronic-components/EEU-FR1V681L/P14443-ND/2433577; Tolerance: 20%; Voltage: 35V; Price: 0.84; Device Package: Radial, Can, 10mm
footprint CAP AL TH D10 L5 H30
pins: 1, 2

## EEU-FR1V681LB
designator C?, comment 680uF  (value not drawn)
CAP ALUM 680UF 20% 35V RADIAL; Part Number: EEU-FR1V681LB; Manufacturer: Panasonic Electronic Components; TemperatureRange: -40C ~ 105C; Type: Polar; Ripple Current: 1.8525A @ 120Hz; Impedance: 18 mOhm; Value: 680uF; PartId: 26021; Supplier 1: Digi-Key; Supplier Part Number 1: P15396TB-ND; ComponentLink1Description: Datasheet; ComponentLink1URL: http://industrial.panasonic.com/cdbs/www-data/pdf/RDF0000/ABA0000C836.pdf; ComponentLink2Description: Digi-Key Listing; ComponentLink2URL: https://www.digikey.com/product-detail/en/panasonic-electronic-components/EEU-FR1V681LB/P15396TB-ND/2504141; Tolerance: 20%; Voltage: 35V; Price: 0.365; Device Package: Radial, Can, 10mm
footprint CAP AL TH D10 L5 H30
pins: 1, 2

## EEU-FR1V821L
designator C?, comment 820uF  (value not drawn)
CAP ALUM 820UF 20% 35V RADIAL; Part Number: EEU-FR1V821L; Manufacturer: Panasonic Electronic Components; TemperatureRange: -40C ~ 105C; Type: Polar; Ripple Current: 1.8525A @ 120Hz; Impedance: 18 mOhm; Value: 820uF; PartId: 26158; Supplier 1: Digi-Key; Supplier Part Number 1: P14444-ND; ComponentLink1Description: Datasheet; ComponentLink1URL: http://industrial.panasonic.com/cdbs/www-data/pdf/RDF0000/ABA0000C836.pdf; ComponentLink2Description: Digi-Key Listing; ComponentLink2URL: https://www.digikey.com/product-detail/en/panasonic-electronic-components/EEU-FR1V821L/P14444-ND/2433578; Tolerance: 20%; Voltage: 35V; Price: 0.87; Device Package: Radial, Can, 10mm
footprint CAP AL TH D10 L5 H30
pins: 1, 2

## EEU-FR1V821LB
designator C?, comment 820uF  (value not drawn)
CAP ALUM 820UF 20% 35V RADIAL; Part Number: EEU-FR1V821LB; Manufacturer: Panasonic Electronic Components; TemperatureRange: -40C ~ 105C; Type: Polar; Ripple Current: 1.8525A @ 120Hz; Impedance: 18 mOhm; Value: 820uF; PartId: 26022; Supplier 1: Digi-Key; Supplier Part Number 1: P15397TB-ND; ComponentLink1Description: Datasheet; ComponentLink1URL: http://industrial.panasonic.com/cdbs/www-data/pdf/RDF0000/ABA0000C836.pdf; ComponentLink2Description: Digi-Key Listing; ComponentLink2URL: https://www.digikey.com/product-detail/en/panasonic-electronic-components/EEU-FR1V821LB/P15397TB-ND/2504143; Tolerance: 20%; Voltage: 35V; Price: 0.365; Device Package: Radial, Can, 10mm
footprint CAP AL TH D10 L5 H30
pins: 1, 2

## EEU-HD1A102B
designator C?, comment 1000uF  (value not drawn)
CAP ALUM 1000UF 20% 10V RADIAL; Part Number: EEU-HD1A102B; Manufacturer: Panasonic Electronic Components; TemperatureRange: -55C ~ 105C; Type: Polar; Ripple Current: 460mA @ 120Hz; Value: 1000uF; PartId: 24797; Supplier 1: Digi-Key; Supplier Part Number 1: P15720TB-ND; ComponentLink1Description: Datasheet; ComponentLink1URL: //media.digikey.com/pdf/Data%20Sheets/Panasonic%20Capacitors%20PDFs/EEU-HD_Series_Spec.pdf; ComponentLink2Description: Digi-Key Listing; ComponentLink2URL: https://www.digikey.com/product-detail/en/panasonic-electronic-components/EEU-HD1A102B/P15720TB-ND/2764380; Tolerance: 20%; Voltage: 10V; Price: 0.4473; Device Package: Radial, Can, 10mm
footprint CAP AL TH D10 L5 H14.5
pins: 1, 2

## EEU-HD1A103
designator C?, comment 10000uF  (value not drawn)
CAP ALUM 10000UF 20% 10V RADIAL; Part Number: EEU-HD1A103; Manufacturer: Panasonic Electronic Components; TemperatureRange: -55C ~ 105C; Type: Polar; Ripple Current: 1.89A @ 120Hz; Value: 10000uF; PartId: 26968; Supplier 1: Digi-Key; Supplier Part Number 1: P15102-ND; ComponentLink1Description: Datasheet; ComponentLink1URL: //media.digikey.com/pdf/Data%20Sheets/Panasonic%20Capacitors%20PDFs/EEU-HD_Series_Spec.pdf; ComponentLink2Description: Digi-Key Listing; ComponentLink2URL: https://www.digikey.com/product-detail/en/panasonic-electronic-components/EEU-HD1A103/P15102-ND/2796073; Tolerance: 20%; Voltage: 10V; Price: 2.44; Device Package: Radial, Can, 16mm
footprint CAP AL TH D16 L7.5 H27
pins: 1, 2

## EEU-HD1A103B
designator C?, comment 10000uF  (value not drawn)
CAP ALUM 10000UF 20% 10V RADIAL; Part Number: EEU-HD1A103B; Manufacturer: Panasonic Electronic Components; TemperatureRange: -55C ~ 105C; Type: Polar; Ripple Current: 1.89A @ 120Hz; Value: 10000uF; PartId: 26875; Supplier 1: Digi-Key; Supplier Part Number 1: P15721TB-ND; ComponentLink1Description: Datasheet; ComponentLink1URL: //media.digikey.com/pdf/Data%20Sheets/Panasonic%20Capacitors%20PDFs/EEU-HD_Series_Spec.pdf; ComponentLink2Description: Digi-Key Listing; ComponentLink2URL: https://www.digikey.com/product-detail/en/panasonic-electronic-components/EEU-HD1A103B/P15721TB-ND/2764383; Tolerance: 20%; Voltage: 10V; Price: 1.2911; Device Package: Radial, Can, 16mm
footprint CAP AL TH D16 L7.5 H27
pins: 1, 2

## EEU-HD1A153
designator C?, comment 15000uF  (value not drawn)
CAP ALUM 15000UF 20% 10V RADIAL; Part Number: EEU-HD1A153; Manufacturer: Panasonic Electronic Components; TemperatureRange: -55C ~ 105C; Type: Polar; Ripple Current: 2.18A @ 120Hz; Value: 15000uF; PartId: 27272; Supplier 1: Digi-Key; Supplier Part Number 1: P15108-ND; ComponentLink1Description: Datasheet; ComponentLink1URL: //media.digikey.com/pdf/Data%20Sheets/Panasonic%20Capacitors%20PDFs/EEU-HD_Series_Spec.pdf; ComponentLink2Description: Digi-Key Listing; ComponentLink2URL: https://www.digikey.com/product-detail/en/panasonic-electronic-components/EEU-HD1A153/P15108-ND/2796074; Tolerance: 20%; Voltage: 10V; Price: 2.99; Device Package: Radial, Can, 16mm
footprint CAP AL TH D16 L7.5 H33.5
pins: 1, 2

## EEU-HD1A222
designator C?, comment 2200uF  (value not drawn)
CAP ALUM 2200UF 20% 10V RADIAL; Part Number: EEU-HD1A222; Manufacturer: Panasonic Electronic Components; TemperatureRange: -55C ~ 105C; Type: Polar; Ripple Current: 760mA @ 120Hz; Value: 2200uF; PartId: 25421; Supplier 1: Digi-Key; Supplier Part Number 1: P15106-ND; ComponentLink1Description: Datasheet; ComponentLink1URL: //media.digikey.com/pdf/Data%20Sheets/Panasonic%20Capacitors%20PDFs/EEU-HD_Series_Spec.pdf; ComponentLink2Description: Digi-Key Listing; ComponentLink2URL: https://www.digikey.com/product-detail/en/panasonic-electronic-components/EEU-HD1A222/P15106-ND/2796075; Tolerance: 20%; Voltage: 10V; Price: 0.99; Device Package: Radial, Can, 10mm
footprint CAP AL TH D10 L5 H17.5
pins: 1, 2

## EEU-HD1A222B
designator C?, comment 2200uF  (value not drawn)
CAP ALUM 2200UF 20% 10V RADIAL; Part Number: EEU-HD1A222B; Manufacturer: Panasonic Electronic Components; TemperatureRange: -55C ~ 105C; Type: Polar; Ripple Current: 760mA @ 120Hz; Value: 2200uF; PartId: 25165; Supplier 1: Digi-Key; Supplier Part Number 1: P15722TB-ND; ComponentLink1Description: Datasheet; ComponentLink1URL: //media.digikey.com/pdf/Data%20Sheets/Panasonic%20Capacitors%20PDFs/EEU-HD_Series_Spec.pdf; ComponentLink2Description: Digi-Key Listing; ComponentLink2URL: https://www.digikey.com/product-detail/en/panasonic-electronic-components/EEU-HD1A222B/P15722TB-ND/2764386; Tolerance: 20%; Voltage: 10V; Price: 0.4447; Device Package: Radial, Can, 10mm
footprint CAP AL TH D10 L5 H17.5
pins: 1, 2

## EEU-HD1A472
designator C?, comment 4700uF  (value not drawn)
CAP ALUM 4700UF 20% 10V RADIAL; Part Number: EEU-HD1A472; Manufacturer: Panasonic Electronic Components; TemperatureRange: -55C ~ 105C; Type: Polar; Ripple Current: 1.26A @ 120Hz; Value: 4700uF; PartId: 23513; Supplier 1: Digi-Key; Supplier Part Number 1: P15109-ND; ComponentLink1Description: Datasheet; ComponentLink1URL: //media.digikey.com/pdf/Data%20Sheets/Panasonic%20Capacitors%20PDFs/EEU-HD_Series_Spec.pdf; ComponentLink2Description: Digi-Key Listing; ComponentLink2URL: https://www.digikey.com/product-detail/en/panasonic-electronic-components/EEU-HD1A472/P15109-ND/2796079; Tolerance: 20%; Voltage: 10V; Price: 1.76; Device Package: Radial, Can, 12.5mm
footprint CAP AL TH D12.5 L5 H22
pins: 1, 2

## EEU-HD1A472B
designator C?, comment 4700uF  (value not drawn)
CAP ALUM 4700UF 20% 10V RADIAL; Part Number: EEU-HD1A472B; Manufacturer: Panasonic Electronic Components; TemperatureRange: -55C ~ 105C; Type: Polar; Ripple Current: 1.26A @ 120Hz; Value: 4700uF; PartId: 23285; Supplier 1: Digi-Key; Supplier Part Number 1: P15725TB-ND; ComponentLink1Description: Datasheet; ComponentLink1URL: //media.digikey.com/pdf/Data%20Sheets/Panasonic%20Capacitors%20PDFs/EEU-HD_Series_Spec.pdf; ComponentLink2Description: Digi-Key Listing; ComponentLink2URL: https://www.digikey.com/product-detail/en/panasonic-electronic-components/EEU-HD1A472B/P15725TB-ND/2764390; Tolerance: 20%; Voltage: 10V; Price: 0.7888; Device Package: Radial, Can, 12.5mm
footprint CAP AL TH D12.5 L5 H22
pins: 1, 2

## EEU-HD1A682B
designator C?, comment 6800uF  (value not drawn)
CAP ALUM 6800UF 20% 10V RADIAL; Part Number: EEU-HD1A682B; Manufacturer: Panasonic Electronic Components; TemperatureRange: -55C ~ 105C; Type: Polar; Ripple Current: 1.57A @ 120Hz; Value: 6800uF; PartId: 23903; Supplier 1: Digi-Key; Supplier Part Number 1: P15726TB-ND; ComponentLink1Description: Datasheet; ComponentLink1URL: //media.digikey.com/pdf/Data%20Sheets/Panasonic%20Capacitors%20PDFs/EEU-HD_Series_Spec.pdf; ComponentLink2Description: Digi-Key Listing; ComponentLink2URL: https://www.digikey.com/product-detail/en/panasonic-electronic-components/EEU-HD1A682B/P15726TB-ND/2764392; Tolerance: 20%; Voltage: 10V; Price: 0.895; Device Package: Radial, Can, 12.5mm
footprint CAP AL TH D12.5 L5 H27
pins: 1, 2

## EEU-HD1C103
designator C?, comment 10000uF  (value not drawn)
CAP ALUM 10000UF 20% 16V RADIAL; Part Number: EEU-HD1C103; Manufacturer: Panasonic Electronic Components; TemperatureRange: -55C ~ 105C; Type: Polar; Ripple Current: 2.06A @ 120Hz; Value: 10000uF; PartId: 27270; Supplier 1: Digi-Key; Supplier Part Number 1: P15100-ND; ComponentLink1Description: Datasheet; ComponentLink1URL: //media.digikey.com/pdf/Data%20Sheets/Panasonic%20Capacitors%20PDFs/EEU-HD_Series_Spec.pdf; ComponentLink2Description: Digi-Key Listing; ComponentLink2URL: https://www.digikey.com/product-detail/en/panasonic-electronic-components/EEU-HD1C103/P15100-ND/2796082; Tolerance: 20%; Voltage: 16V; Price: 2.99; Device Package: Radial, Can, 16mm
footprint CAP AL TH D16 L7.5 H33.5
pins: 1, 2

## EEU-HD1C332
designator C?, comment 3300uF  (value not drawn)
CAP ALUM 3300UF 20% 16V RADIAL; Part Number: EEU-HD1C332; Manufacturer: Panasonic Electronic Components; TemperatureRange: -55C ~ 105C; Type: Polar; Ripple Current: 1.17A @ 120Hz; Value: 3300uF; PartId: 23512; Supplier 1: Digi-Key; Supplier Part Number 1: P15103-ND; ComponentLink1Description: Datasheet; ComponentLink1URL: //media.digikey.com/pdf/Data%20Sheets/Panasonic%20Capacitors%20PDFs/EEU-HD_Series_Spec.pdf; ComponentLink2Description: Digi-Key Listing; ComponentLink2URL: https://www.digikey.com/product-detail/en/panasonic-electronic-components/EEU-HD1C332/P15103-ND/2796086; Tolerance: 20%; Voltage: 16V; Price: 1.76; Device Package: Radial, Can, 12.5mm
footprint CAP AL TH D12.5 L5 H22
pins: 1, 2

## EEU-HD1C332B
designator C?, comment 3300uF  (value not drawn)
CAP ALUM 3300UF 20% 16V RADIAL; Part Number: EEU-HD1C332B; Manufacturer: Panasonic Electronic Components; TemperatureRange: -55C ~ 105C; Type: Polar; Ripple Current: 1.17A @ 120Hz; Value: 3300uF; PartId: 23515; Supplier 1: Digi-Key; Supplier Part Number 1: P15730CT-ND; ComponentLink1Description: Datasheet; ComponentLink1URL: //media.digikey.com/pdf/Data%20Sheets/Panasonic%20Capacitors%20PDFs/EEU-HD_Series_Spec.pdf; ComponentLink2Description: Digi-Key Listing; ComponentLink2URL: https://www.digikey.com/product-detail/en/panasonic-electronic-components/EEU-HD1C332B/P15730CT-ND/3831097; Tolerance: 20%; Voltage: 16V; Price: 1.77; Device Package: Radial, Can, 12.5mm
footprint CAP AL TH D12.5 L5 H22
pins: 1, 2

## EEU-HD1C472
designator C?, comment 4700uF  (value not drawn)
CAP ALUM 4700UF 20% 16V RADIAL; Part Number: EEU-HD1C472; Manufacturer: Panasonic Electronic Components; TemperatureRange: -55C ~ 105C; Type: Polar; Ripple Current: 1.48A @ 120Hz; Value: 4700uF; PartId: 24177; Supplier 1: Digi-Key; Supplier Part Number 1: P15145-ND; ComponentLink1Description: Datasheet; ComponentLink1URL: //media.digikey.com/pdf/Data%20Sheets/Panasonic%20Capacitors%20PDFs/EEU-HD_Series_Spec.pdf; ComponentLink2Description: Digi-Key Listing; ComponentLink2URL: https://www.digikey.com/product-detail/en/panasonic-electronic-components/EEU-HD1C472/P15145-ND/2796089; Tolerance: 20%; Voltage: 16V; Price: 1.9; Device Package: Radial, Can, 12.5mm
footprint CAP AL TH D12.5 L5 H27
pins: 1, 2

## EEU-HD1C472B
designator C?, comment 4700uF  (value not drawn)
CAP ALUM 4700UF 20% 16V RADIAL; Part Number: EEU-HD1C472B; Manufacturer: Panasonic Electronic Components; TemperatureRange: -55C ~ 105C; Type: Polar; Ripple Current: 1.48A @ 120Hz; Value: 4700uF; PartId: 23900; Supplier 1: Digi-Key; Supplier Part Number 1: P15732TB-ND; ComponentLink1Description: Datasheet; ComponentLink1URL: //media.digikey.com/pdf/Data%20Sheets/Panasonic%20Capacitors%20PDFs/EEU-HD_Series_Spec.pdf; ComponentLink2Description: Digi-Key Listing; ComponentLink2URL: https://www.digikey.com/product-detail/en/panasonic-electronic-components/EEU-HD1C472B/P15732TB-ND/2764404; Tolerance: 20%; Voltage: 16V; Price: 0.895; Device Package: Radial, Can, 12.5mm
footprint CAP AL TH D12.5 L5 H27
pins: 1, 2